# Altium schematic symbol library 球球库.SchLib: 79 symbols
Pins are listed as number, name and electrical type; pins without a type are passive.

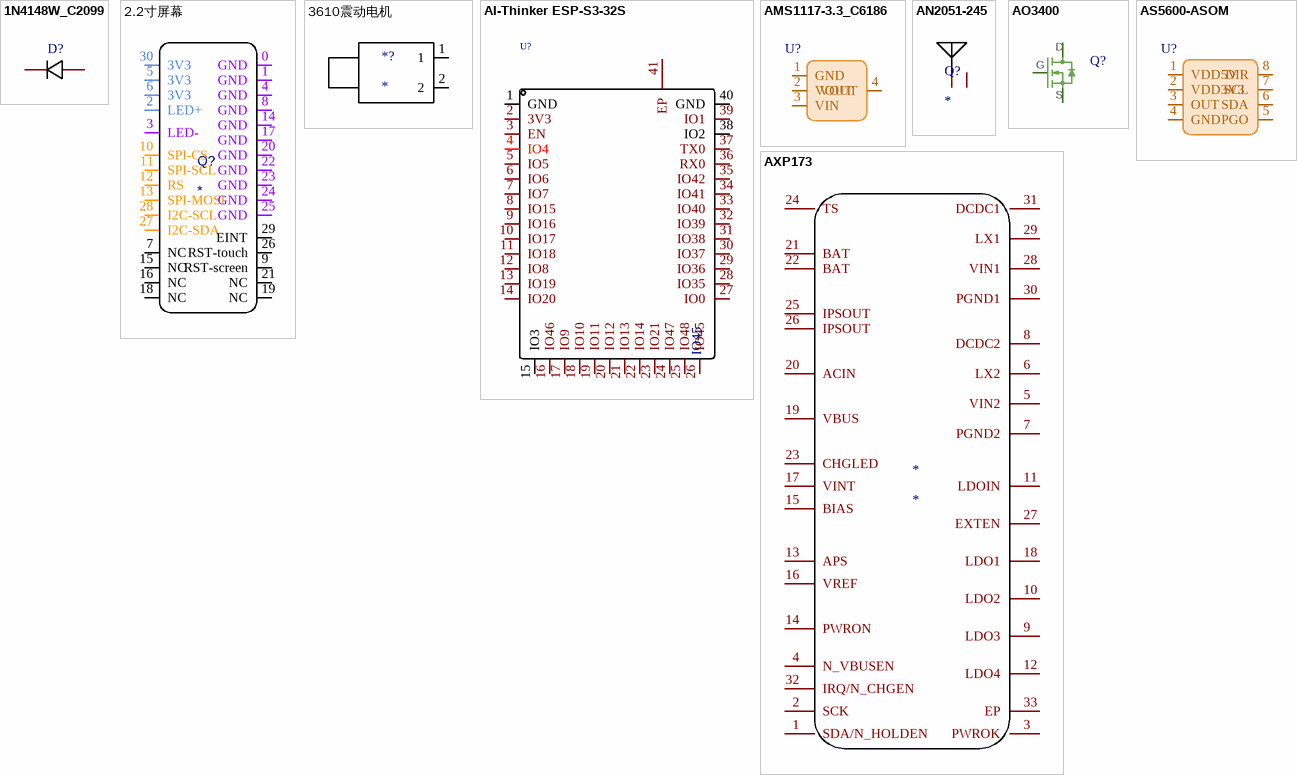
[diagram p0: symbols 1N4148W_C2099 to AXP173]

## 1N4148W_C2099
designator D?  (value not drawn)
二极管配置:独立式;功率:500mW;直流反向耐压(Vr):100V;平均整流电流(Io):150mA;正向压降(Vf):1.25V@150mA;反向电流(Ir):1uA@75V;反向恢复时间(trr):4ns;工作温度:+150℃@(Tj);; Manufacturer: CJ(江苏长电/长晶); Symbol: 1N4148W T4; Add into BOM: yes; Diode Configuration: 独立式; Power Dissipation: 500mW; Reverse Voltage (Vr): 100V; Average Rectified Current (Io): 150mA; Reverse Recovery Time (trr): 4ns; Name: 1N4148W; Device: 1N4148W_C2099; LCSC Part Name: 100V 150mA 4ns T4; Supplier Part: C2099; Manufacturer Part: 1N4148W; Supplier Footprint: SOD-123; JLCPCB Part Class: 扩展库; Datasheet: https://atta.szlcsc.com/upload/public/pdf/source/20120428/1457706480199.pdf; Supplier: LCSC; Convert to PCB: yes; Forward Voltage (Vf@If): 1.25V@150mA; Reverse Leakage Current: 1uA@75V; Operating Temperature: +150℃@(Tj)
footprint SOD-123_L2.8-W1.8-LS3.7-RD
3D model SOD-123_L2.8-W1.8-LS3.7-RD
pins: 1 K, 2 A

## 2.2寸屏幕
designator Q?
footprint 2.2寸屏幕
pins: 0 GND, 1 GND, 2 LED+, 3 LED-, 4 GND, 5 3V3, 6 3V3, 7 NC, 8 GND, 9 RST-screen, 10 SPI-CS, 11 SPI-SCL, 12 RS, 13 SPI-MOSI, 14 GND, 15 NC, 16 NC, 17 GND, 18 NC, 19 NC, 20 GND, 21 NC, 22 GND, 23 GND, 24 GND, 25 GND, 26 RST-touch, 27 I2C-SDA, 28 I2C-SCL, 29 EINT, 30 3V3

## 3610震动电机
designator *?
footprint 3610电机
pins: 1, 2

## AI-Thinker ESP-S3-32S
designator U?  NAME: IO45  (hidden comment: AI-Thinker ESP-S3-32S)
Manufacturer: AI Thinker; Convert to PCB: yes; Symbol: AI-Thinker ESP-S3-32S; Device: AI-Thinker ESP-S3-32S; Add into BOM: yes; Supplier: AI Thinker
footprint ESP-S3-32S
pins: 1 GND, 2 3V3, 3 EN, 4 IO4, 5 IO5, 6 IO6, 7 IO7, 8 IO15, 9 IO16, 10 IO17, 11 IO18, 12 IO8, 13 IO19, 14 IO20, 15 IO3, 16 IO46, 17 IO9, 18 IO10, 19 IO11, 20 IO12, 21 IO13, 22 IO14, 23 IO21, 24 IO47, 25 IO48, 26 IO45, 27 IO0, 28 IO35, 29 IO36, 30 IO37, 31 IO38, 32 IO39, 33 IO40, 34 IO41, 35 IO42, 36 RX0, 37 TX0, 38 IO2, 39 IO1, 40 GND, 41 EP

## AMS1117-3.3_C6186
designator U?  (value not drawn)
输出类型:固定;输出极性:正;输出通道数:1;最大输入电压:-;输出电压:3.3V;压差:1.3V@(800mA);静态电流(地电流):-;输出电流:1A;电源纹波抑制比(PSRR):72dB@(120Hz);噪声:-;特性:-;工作温度:-;; Manufacturer: 美国AMS; Add into BOM: yes; Output Type: 固定; Output Polarity: 正; Number of Outputs: 1; Output Voltage: 3.3V; Output Current: 1A; Name: AMS1117-3.3; Symbol: AMS1117-3.3; Device: AMS1117-3.3_C6186; LCSC Part Name: Vout=3.3V 1A 72dB@(120Hz); Supplier Part: C6186; Manufacturer Part: AMS1117-3.3; Supplier Footprint: SOT-223; JLCPCB Part Class: 基础库; Datasheet: https://atta.szlcsc.com/upload/public/pdf/source/20180727/C6186_7A095716F0823C02F1997A905E26C086.pdf; Supplier: LCSC; Convert to PCB: yes; Maximum Input Voltage: -; Dropout Voltage: 1.3V@(800mA); Quiescent Current (Ground Current): -; Power Supply Rejection Ratio (PSRR): 72dB@(120Hz); Noise: -; Feature: -; Operating Temperature: -
footprint SOT-223-3_L6.5-W3.4-P2.30-LS7.0-BR
3D model SOT-223-4P_L6.5-W3.5-H1.6-LS7.0-P2.30
pins: 1 GND, 2 VOUT, 3 VIN, 4 VOUT

## AN2051-245
designator Q?
footprint AN2051-245
pins: 1 ANT, 2

## AO3400
designator Q?, comment AO3400_C181090  (value not drawn)
类型:N沟道;漏源电压(Vdss):30V;连续漏极电流(Id):5.8A;功率(Pd):350mW;导通电阻(RDS(on)@Vgs,Id):35mΩ@10V,5.8A;阈值电压(Vgs(th)@Id):1.4V@250uA;; Manufacturer: Hottech(合科泰); Name: AO3400; Add into BOM: yes; Type: N沟道; Drain Source Voltage (Vdss): 30V; Power Dissipation (Pd): 350mW; Symbol: AO3400_C181090; Device: AO3400_C181090; LCSC Part Name: N沟道 30V 5.8A; Supplier Part: C181090; Manufacturer Part: AO3400; Supplier Footprint: SOT-23-3; JLCPCB Part Class: 扩展库; Datasheet: https://atta.szlcsc.com/upload/public/pdf/source/20220427/6A3871894567E8883DB64081D5FF8011.pdf; Supplier: LCSC; Convert to PCB: yes; Continuous Drain Current (Id): 5.8A; Drain Source On Resistance (RDS(on)@Vgs,Id): 35mΩ@10V,5.8A; Gate Threshold Voltage (Vgs(th)@Id): 1.4V@250uA
footprint SOT-23-3_L2.9-W1.3-P1.90-LS2.4-BR
3D model SOT-23-3P_L2.9-W1.3-H1.0-LS2.4-P0.95
pins: 1 G, 2 S, 3 D

## AS5600-ASOM
designator U?  (value not drawn)
非接触12bit磁角度位置传感器; Manufacturer: ams(艾迈斯半导体); Add into BOM: yes; Name: AS5600-ASOM; Symbol: AS5600-ASOM; Device: AS5600-ASOM; LCSC Part Name: AS5600-ASOM; Supplier Part: C79815; Manufacturer Part: AS5600-ASOM; Supplier Footprint: SOIC-8_150mil; JLCPCB Part Class: 扩展库; Datasheet: https://atta.szlcsc.com/upload/public/pdf/source/20161027/1477535527192.pdf; Supplier: LCSC; Convert to PCB: yes
footprint SOIC-8_L5.0-W4.0-P1.27-LS6.0-BL
3D model SOIC-8_L4.9-W3.9-H1.7-LS6.0-P1.27
pins: 1 VDD5V, 2 VDD3V3, 3 OUT, 4 GND, 5 PGO, 6 SDA, 7 SCL, 8 DIR

## AXP173
designator *
footprint QFN-32
pins: 1 SDA/N_HOLDEN, 2 SCK, 3 PWROK, 4 N_VBUSEN, 5 VIN2, 6 LX2, 7 PGND2, 8 DCDC2, 9 LDO3, 10 LDO2, 11 LDOIN, 12 LDO4, 13 APS, 14 PWRON, 15 BIAS, 16 VREF, 17 VINT, 18 LDO1, 19 VBUS, 20 ACIN, 21 BAT, 22 BAT, 23 CHGLED, 24 TS, 25 IPSOUT, 26 IPSOUT, 27 EXTEN, 28 VIN1, 29 LX1, 30 PGND1, 31 DCDC1, 32 IRQ/N_CHGEN, 33 EP

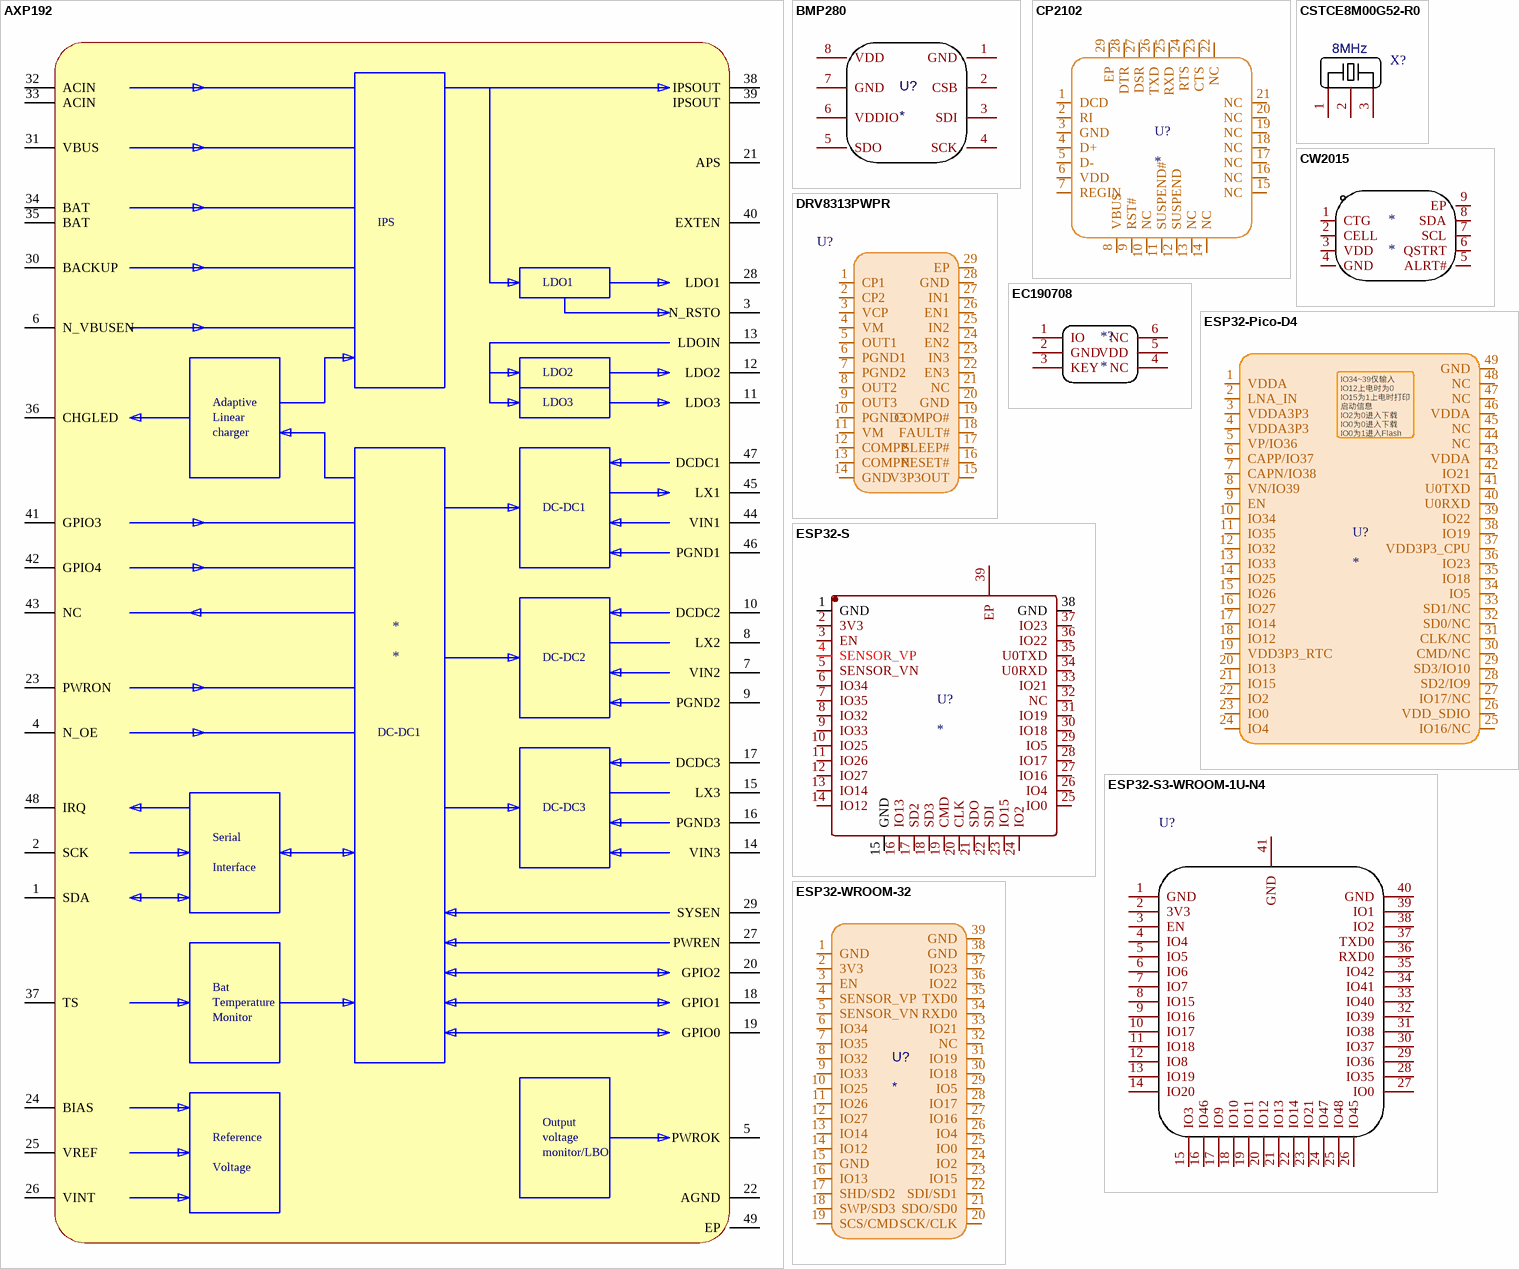
[diagram p1: symbols AXP192 to ESP32-WROOM-32]

## AXP192
designator *
footprint QFN-48_6x6
pins: 1 SDA, 2 SCK, 3 N_RSTO, 4 N_OE, 5 PWROK, 6 N_VBUSEN, 7 VIN2, 8 LX2, 9 PGND2, 10 DCDC2, 11 LDO3, 12 LDO2, 13 LDOIN, 14 VIN3, 15 LX3, 16 PGND3, 17 DCDC3, 18 GPIO1, 19 GPIO0, 20 GPIO2, 21 APS, 22 AGND, 23 PWRON, 24 BIAS, 25 VREF, 26 VINT, 27 PWREN, 28 LDO1, 29 SYSEN, 30 BACKUP, 31 VBUS, 32 ACIN, 33 ACIN, 34 BAT, 35 BAT, 36 CHGLED, 37 TS, 38 IPSOUT, 39 IPSOUT, 40 EXTEN, 41 GPIO3, 42 GPIO4, 43 NC, 44 VIN1, 45 LX1, 46 PGND1, 47 DCDC1, 48 IRQ, 49 EP
text: IPS; Adaptive; Linear; charger; DC-DC1; DC-DC2; DC-DC3; Serial; Interface; Bat; Temperature; Monitor; Output; Reference; voltage; monitor/LBO; Voltage

## BMP280
designator U?
footprint BMP280
pins: 1 GND, 2 CSB, 3 SDI, 4 SCK, 5 SDO, 6 VDDIO, 7 GND, 8 VDD

## CP2102
designator U?
footprint QFN-28
pins: 1 DCD, 2 RI, 3 GND, 4 D+, 5 D-, 6 VDD, 7 REGIN, 8 VBUS, 9 RST#, 10 NC, 11 SUSPEND#, 12 SUSPEND, 13 NC, 14 NC, 15 NC, 16 NC, 17 NC, 18 NC, 19 NC, 20 NC, 21 NC, 22 NC, 23 CTS, 24 RTS, 25 RXD, 26 TXD, 27 DSR, 28 DTR, 29 EP

## CSTCE8M00G52-R0
designator X?  value 8MHz  (hidden comment: CSTCE8M00G52-R0)
频率:8MHz;频率容差:±0.5%;内置负载电容:10pF;谐振阻抗:40Ω;; Manufacturer: muRata(村田); Add into BOM: yes; Frequency Tolerance: ±0.5%; Built-in Load Capacitance: 10pF; Resonant Impedance: 40Ω; NAME: 3; Name: 8MHz; Symbol: CSTCE8M00G52-R0; Device: CSTCE8M00G52-R0; LCSC Part Name: 8.000MHz  ±0.5%  10pF 停产; Supplier Part: C22549; Manufacturer Part: CSTCE8M00G52-R0; Supplier Footprint: SMD3213-3P; JLCPCB Part Class: 扩展库; Datasheet: https://atta.szlcsc.com/upload/public/pdf/source/20160120/1457707754326.pdf; Supplier: LCSC; Convert to PCB: yes; Operating Temperature: -20℃~+80℃
footprint OSC-SMD_3P-L3.2-W1.3-P1.2-L
3D model OSC-SMD_3P-L3.2-W1.3-H0.8-P1.2
pins: 1, 2, 3

## CW2015
designator *
footprint TDFN-8
pins: 1 CTG, 2 CELL, 3 VDD, 4 GND, 5 ALRT#, 6 QSTRT, 7 SCL, 8 SDA, 9 EP

## DRV8313PWPR
designator U?  (value not drawn)
DRV8313 三路 1/2 H 桥驱动器 IC; Manufacturer: TI(德州仪器); Add into BOM: yes; Name: DRV8313PWPR; Symbol: DRV8313PWPR; Device: DRV8313PWPR; LCSC Part Name: DRV8313PWPR; Supplier Part: C92482; Manufacturer Part: DRV8313PWPR; Supplier Footprint: HTSSOP-28; JLCPCB Part Class: 扩展库; Datasheet: https://atta.szlcsc.com/upload/public/pdf/source/20180307/C92482_15204091381071407760.pdf; Supplier: LCSC; Convert to PCB: yes
footprint HTSSOP-28_L9.8-W4.5-P0.65-LS6.6-BL-EP
3D model HTSSOP-28_L9.7-W4.4-H1.2-LS6.4-P0.65
pins: 1 CP1, 2 CP2, 3 VCP, 4 VM, 5 OUT1, 6 PGND1, 7 PGND2, 8 OUT2, 9 OUT3, 10 PGND3, 11 VM, 12 COMPP, 13 COMPN, 14 GND, 15 V3P3OUT, 16 RESET#, 17 SLEEP#, 18 FAULT#, 19 COMPO#, 20 GND, 21 NC, 22 EN3, 23 IN3, 24 EN2, 25 IN2, 26 EN1, 27 IN1, 28 GND, 29 EP

## EC190708
designator *?
footprint SOT23-6
pins: 1 IO, 2 GND, 3 KEY, 4 NC, 5 VDD, 6 NC

## ESP32-Pico-D4
designator U?
footprint QFN-48_7X7
pins: 1 VDDA, 2 LNA_IN, 3 VDDA3P3, 4 VDDA3P3, 5 VP/IO36, 6 CAPP/IO37, 7 CAPN/IO38, 8 VN/IO39, 9 EN, 10 IO34, 11 IO35, 12 IO32, 13 IO33, 14 IO25, 15 IO26, 16 IO27, 17 IO14, 18 IO12, 19 VDD3P3_RTC, 20 IO13, 21 IO15, 22 IO2, 23 IO0, 24 IO4, 25 IO16/NC, 26 VDD_SDIO, 27 IO17/NC, 28 SD2/IO9, 29 SD3/IO10, 30 CMD/NC, 31 CLK/NC, 32 SD0/NC, 33 SD1/NC, 34 IO5, 35 IO18, 36 IO23, 37 VDD3P3_CPU, 38 IO19, 39 IO22, 40 U0RXD, 41 U0TXD, 42 IO21, 43 VDDA, 44 NC, 45 NC, 46 VDDA, 47 NC, 48 NC, 49 GND
text: IO34~39仅输入 / IO12上电时为0 / IO15为1上电时打印启动信息 / IO2为0进入下载 / IO0为0进入下载 / IO0为1进入Flash / IO5上电为1 /

## ESP32-S
designator U?
footprint ESP32-S
pins: 1 GND, 2 3V3, 3 EN, 4 SENSOR_VP, 5 SENSOR_VN, 6 IO34, 7 IO35, 8 IO32, 9 IO33, 10 IO25, 11 IO26, 12 IO27, 13 IO14, 14 IO12, 15 GND, 16 IO13, 17 SD2, 18 SD3, 19 CMD, 20 CLK, 21 SDO, 22 SDI, 23 IO15, 24 IO2, 25 IO0, 26 IO4, 27 IO16, 28 IO17, 29 IO5, 30 IO18, 31 IO19, 32 NC, 33 IO21, 34 U0RXD, 35 U0TXD, 36 IO22, 37 IO23, 38 GND, 39 EP

## ESP32-S3-WROOM-1U-N4
designator U?  (value not drawn)
Manufacturer: ESPRESSIF(乐鑫); Add into BOM: yes; Name: ESP32-S3-WROOM-1U-N4; Symbol: ESP32-S3-WROOM-1U-N4; Device: ESP32-S3-WROOM-1U-N4; LCSC Part Name: ESP32-S3-WROOM-1U-N4; Supplier Part: C2980296; Manufacturer Part: ESP32-S3-WROOM-1U-N4; Supplier Footprint: 模块; JLCPCB Part Class: 扩展库; Datasheet: https://atta.szlcsc.com/upload/public/pdf/source/20220628/A2AC12B3C87735CAEB7EBE2DBE80936C.pdf; Supplier: LCSC; Convert to PCB: yes
footprint ESP32-S3-U1
pins: 1 GND, 2 3V3, 3 EN, 4 IO4, 5 IO5, 6 IO6, 7 IO7, 8 IO15, 9 IO16, 10 IO17, 11 IO18, 12 IO8, 13 IO19, 14 IO20, 15 IO3, 16 IO46, 17 IO9, 18 IO10, 19 IO11, 20 IO12, 21 IO13, 22 IO14, 23 IO21, 24 IO47, 25 IO48, 26 IO45, 27 IO0, 28 IO35, 29 IO36, 30 IO37, 31 IO38, 32 IO39, 33 IO40, 34 IO41, 35 IO42, 36 RXD0, 37 TXD0, 38 IO2, 39 IO1, 40 GND, 41 GND

## ESP32-WROOM-32
designator U?
footprint ESP32-WROOM-32
pins: 1 GND, 2 3V3, 3 EN, 4 SENSOR_VP, 5 SENSOR_VN, 6 IO34, 7 IO35, 8 IO32, 9 IO33, 10 IO25, 11 IO26, 12 IO27, 13 IO14, 14 IO12, 15 GND, 16 IO13, 17 SHD/SD2, 18 SWP/SD3, 19 SCS/CMD, 20 SCK/CLK, 21 SDO/SD0, 22 SDI/SD1, 23 IO15, 24 IO2, 25 IO0, 26 IO4, 27 IO16, 28 IO17, 29 IO5, 30 IO18, 31 IO19, 32 NC, 33 IO21, 34 RXD0, 35 TXD0, 36 IO22, 37 IO23, 38 GND, 39 GND

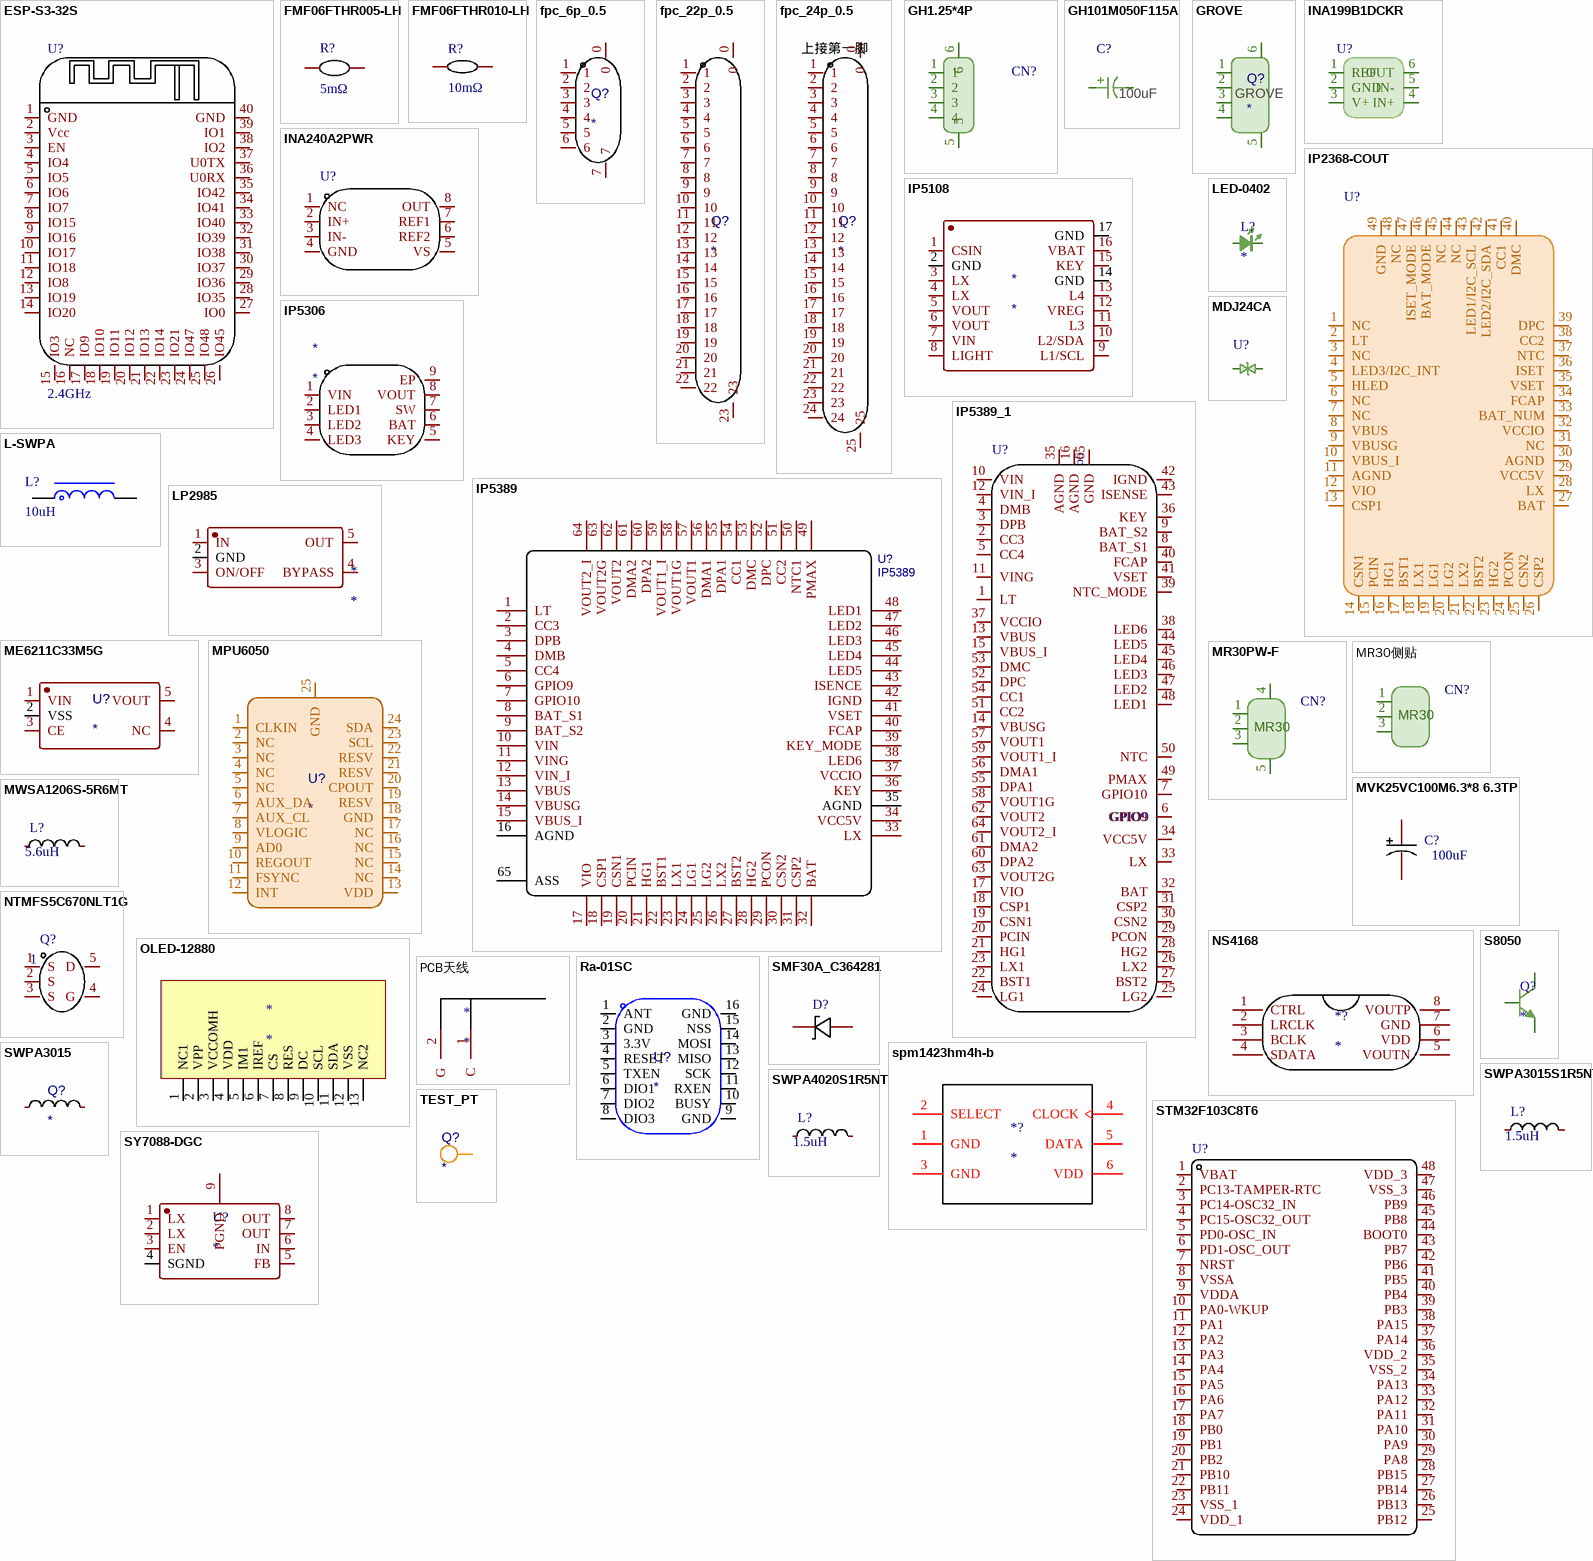
[diagram p2: symbols ESP-S3-32S to TEST_PT]

## ESP-S3-32S
designator U?, comment 2.4GHz
频率:2.4GHz;发射功率:20dBm;核心处理器:LX7;天线形式:板载 PCB 天线/IPEX 座;接收灵敏度:-97dBm;; Manufacturer: Ai-Thinker(安信可); Symbol: ESP-S3-32S; Add into BOM: yes; Output Power: 20dBm; Core Processor: LX7; Support Interface: I2C；GPIO；UART；PWM；SPI；ADC；I2S; Wireless Standard: 802.11b/g/n; Operating Voltage: 3.3V; Receive  Current: 100mA; Send  Current: 350mA; Sensitivity: -97dBm; Name: 2.4GHz; Device: ESP-S3-32S; LCSC Part Name: ESP-S3-32S; Supplier Part: C2991924; Manufacturer Part: ESP-S3-32S; Supplier Footprint: 模块; JLCPCB Part Class: Extended Part; Datasheet: https://atta.szlcsc.com/upload/public/pdf/source/20220408/CE8A9DA1AF38F6C1872EA82F58EE94AA.pdf; Supplier: LCSC; Convert to PCB: yes; Antenna Type: 板载 PCB 天线/IPEX 座; Operating Temperature: -40℃~+85℃; Value: 2.4GHz
footprint WIFIM-SMD_40P-L25.5-W18.0-P1.27-TL
3D model WIFIM-SMD_40P-L25.5-W18.0-P1.27-TL
pins: 1 GND, 2 Vcc, 3 EN, 4 IO4, 5 IO5, 6 IO6, 7 IO7, 8 IO15, 9 IO16, 10 IO17, 11 IO18, 12 IO8, 13 IO19, 14 IO20, 15 IO3, 16 NC, 17 IO9, 18 IO10, 19 IO11, 20 IO12, 21 IO13, 22 IO14, 23 IO21, 24 IO47, 25 IO48, 26 IO45, 27 IO0, 28 IO35, 29 IO36, 30 IO37, 31 IO38, 32 IO39, 33 IO40, 34 IO41, 35 IO42, 36 U0RX, 37 U0TX, 38 IO2, 39 IO1, 40 GND

## FMF06FTHR005-LH
designator R?  value 5mΩ  (hidden comment: FMF06FTHR005-LH)
阻值:5mΩ;精度:±1%;功率:1W;温度系数:±70ppm/℃;; Manufacturer: PSA(信昌电陶); Add into BOM: yes; Tolerance: ±1%; Power(Watts): 1W; Name: 5mΩ; Symbol: FMF06FTHR005-LH; Device: FMF06FTHR005-LH; LCSC Part Name: 5mΩ ±1% 1W; Supplier Part: C464975; Manufacturer Part: FMF06FTHR005-LH; Supplier Footprint: 1206; JLCPCB Part Class: 扩展库; Datasheet: https://atta.szlcsc.com/upload/public/pdf/source/20191129/C464975_5F7F8E27A15B862FFEA0BACE05AA9473.pdf; Supplier: LCSC; Convert to PCB: yes; Temperature Coefficient: ±70ppm/℃
footprint R1206
3D model R1206_L3.2-W1.6-H0.6
pins: 1, 2

## FMF06FTHR010-LH
designator R?  value 10mΩ  (hidden comment: FMF06FTHR010-LH)
阻值:10mΩ;精度:±1%;功率:1W;温度系数:±70ppm/℃;; Manufacturer: PSA(信昌电陶); Symbol: FMF06FTHR010-LHL; Add into BOM: yes; Tolerance: ±1%; Power(Watts): 1W; Name: 10mΩ; Device: FMF06FTHR010-LH; LCSC Part Name: 10mΩ ±1% 1W; Supplier Part: C105362; Manufacturer Part: FMF06FTHR010-LH; Supplier Footprint: 1206; JLCPCB Part Class: 扩展库; Datasheet: https://atta.szlcsc.com/upload/public/pdf/source/20170410/1491788444486.pdf; Supplier: LCSC; Convert to PCB: yes; Temperature Coefficient: ±70ppm/℃
footprint R1206
3D model R1206_L3.2-W1.6-H0.6
pins: 1, 2

## fpc_6p_0.5
designator Q?
footprint fpc-后压6p
pins: 0, 1, 2, 3, 4, 5, 6, 7

## fpc_22p_0.5
designator Q?
footprint fpc-后压22p
pins: 0, 1, 2, 3, 4, 5, 6, 7, 8, 9, 10, 11, 12, 13, 14, 15, 16, 17, 18, 19, 20, 21, 22, 23

## fpc_24p_0.5
designator Q?
footprint fpc-后压24p
pins: 0, 1, 2, 3, 4, 5, 6, 7, 8, 9, 10, 11, 12, 13, 14, 15, 16, 17, 18, 19, 20, 21, 22, 23, 24, 25
text: 上接第一脚

## GH1.25*4P
designator CN?, comment A1257WR-S-4P  (value not drawn)
参考系列:GH;间距:1.25mm;插针结构:1x4P;排数:1;每排PIN数:4;行距:-;安装方式:-;触头材质:黄铜;; Manufacturer: CJT(长江连接器); Add into BOM: yes; Reference Series: GH; Pitch: 1.25mm; Pins Structure: 1x4P; Number of PINs Per Row: 4; Name: A1257WR-S-4P; Symbol: A1257WR-S-4P; Device: A1257WR-S-4P; LCSC Part Name: GH1.25卧式贴片 镀锡 4P 针座连接器; Supplier Part: C225127; Manufacturer Part: A1257WR-S-4P; Supplier Footprint: SMD,P=1.25mm; JLCPCB Part Class: Extended Part; Datasheet: https://atta.szlcsc.com/upload/public/pdf/source/20180509/C225127_D8D3C7F8F1F45F960D198B1E232900BE.pdf; Supplier: LCSC; Convert to PCB: yes; Number of Rows: 1; Row Spacing: -; Mounting Style: -; Contact Material: 黄铜
footprint CONN-SMD_A1257WR-S-4P
3D model CONN-SMD_GH1.25-WS-4P
pins: 1, 2, 3, 4, 5, 6

## GH101M050F115A
designator C?, comment 100uF
容值:100uF;精度:±20%;额定电压:50V;电容体直径:8mm;电容体长度:11.5mm;脚间距:3.5mm;纹波电流:540mA@100kHz;等效串联电阻:280mΩ@100kHz;工作寿命:7000hrs@105℃;工作温度:-55℃~+105℃;; Manufacturer: CapXon(丰宾); Symbol: GH101M050F115A; Add into BOM: yes; Tolerance: ±20%; Rated Voltage: 50V; φD: 8mm; L: 11.5mm; Name: 100uF; Device: GH101M050F115A; LCSC Part Name: 100uF ±20% 50V; Supplier Part: C2886718; Manufacturer Part: GH101M050F115A; Supplier Footprint: 插件,D8xL11.5mm; JLCPCB Part Class: Extended Part; Datasheet: https://atta.szlcsc.com/upload/public/pdf/source/20210818/BAF06C919BDA5EFC1E3920114FF02917.pdf; Supplier: LCSC; Convert to PCB: yes; Lead Spacing: 3.5mm; Ripple Current: 540mA@100kHz; Equivalent Series Resistance(ESR): 280mΩ@100kHz; Lifetime @ Temp: 7000hrs@105℃; Operating Temperature: -55℃~+105℃; Value: 100uF
footprint CAP-TH_BD8.0-P3.50-D0.5-FD
3D model CAP-TH_BD8.0-P3.50-D0.5-FD
pins: 1, 2

## GROVE
designator Q?
footprint GROVE
pins: 1, 2, 3, 4, 5, 6

## INA199B1DCKR
designator U?  (value not drawn)
INA199 26V、双向、零漂移、低侧/高侧、电压输出分流监控器; Manufacturer: TI(德州仪器); Add into BOM: yes; Symbol: INA199B1DCKR; Device: INA199B1DCKR; LCSC Part Name: INA199B1DCKR; Supplier Part: C398920; Manufacturer Part: INA199B1DCKR; Supplier Footprint: SC-70-6; JLCPCB Part Class: Extended Part; Datasheet: https://atta.szlcsc.com/upload/public/pdf/source/20190618/C398920_11F1AA1C0E9C9D9BC4E845E2D57884D2.pdf; Supplier: LCSC; Convert to PCB: yes
footprint SC-70-6_L2.2-W1.3-P0.65-LS2.1-BL
3D model SC-70-6_L2.0-W1.3-H1.0-P0.65
pins: 1 REF, 2 GND, 3 V+, 4 IN+, 5 IN-, 6 OUT

## INA240A2PWR
designator U?  (value not drawn)
INA240 电压输出、高/低侧测量、双向零漂移系列; Manufacturer: TI(德州仪器); Add into BOM: yes; Name: INA240A2PWR; Symbol: INA240A2PWR; Device: INA240A2PWR; LCSC Part Name: INA240A2PWR; Supplier Part: C129949; Manufacturer Part: INA240A2PWR; Supplier Footprint: TSSOP-8; JLCPCB Part Class: 扩展库; Datasheet: https://atta.szlcsc.com/upload/public/pdf/source/20170918/C129949_1505700148139974986.pdf; Supplier: LCSC; Convert to PCB: yes
footprint TSSOP-8_L4.4-W3.0-P0.65-LS6.4-BL
3D model TSSOP-8_L3.0-W4.4-H1.0-LS6.4-P0.65
pins: 1 NC, 2 IN+, 3 IN-, 4 GND, 5 VS, 6 REF2, 7 REF1, 8 OUT

## IP2368-COUT
designator U?  (value not drawn)
Add into BOM: yes; Name: IP2368-COUT; Symbol: IP2368-COUT; Device: IP2368-COUT; LCSC Part Name: IP2368-COUT; Supplier Part: C9900006677; Manufacturer Part: IP2368-COUT; Supplier Footprint: QFN-48; JLCPCB Part Class: Extended Part; Datasheet: https://atta.szlcsc.comnull; Supplier: LCSC; Convert to PCB: yes
footprint QFN-48_L7.0-W7.0-P0.50-BL-EP5.4
3D model QFN-48_L7.0-W7.0-P0.50-BL-EP5.4
pins: 1 NC, 2 LT, 3 NC, 4 LED3/I2C_INT, 5 HLED, 6 NC, 7 NC, 8 VBUS, 9 VBUSG, 10 VBUS_I, 11 AGND, 12 VIO, 13 CSP1, 14 CSN1, 15 PCIN, 16 HG1, 17 BST1, 18 LX1, 19 LG1, 20 LG2, 21 LX2, 22 BST2, 23 HG2, 24 PCON, 25 CSN2, 26 CSP2, 27 BAT, 28 LX, 29 VCC5V, 30 AGND, 31 NC, 32 VCCIO, 33 BAT_NUM, 34 FCAP, 35 VSET, 36 ISET, 37 NTC, 38 CC2, 39 DPC, 40 DMC, 41 CC1, 42 LED2/I2C_SDA, 43 LED1/I2C_SCL, 44 NC, 45 NC, 46 BAT_MODE, 47 ISET_MODE, 48 NC, 49 GND

## IP5108
designator *
footprint eSOP-16L
pins: 1 CSIN, 2 GND, 3 LX, 4 LX, 5 VOUT, 6 VOUT, 7 VIN, 8 LIGHT, 9 L1/SCL, 10 L2/SDA, 11 L3, 12 VREG, 13 L4, 14 GND, 15 KEY, 16 VBAT, 17 GND

## IP5306
designator *
footprint ESOP8
pins: 1 VIN, 2 LED1, 3 LED2, 4 LED3, 5 KEY, 6 BAT, 7 SW, 8 VOUT, 9 EP

## IP5389
designator U?
Contributor: LoveLoli; spicePre: U; spiceSymbolName: IP5389
footprint QFN-64_L8.0-W8.0-P0.40-TL-EP6.2
pins: 1 LT, 2 CC3, 3 DPB, 4 DMB, 5 CC4, 6 GPIO9, 7 GPIO10, 8 BAT_S1, 9 BAT_S2, 10 VIN, 11 VING, 12 VIN_I, 13 VBUS, 14 VBUSG, 15 VBUS_I, 16 AGND, 17 VIO, 18 CSP1, 19 CSN1, 20 PCIN, 21 HG1, 22 BST1, 23 LX1, 24 LG1, 25 LG2, 26 LX2, 27 BST2, 28 HG2, 29 PCON, 30 CSN2, 31 CSP2, 32 BAT, 33 LX, 34 VCC5V, 35 AGND, 36 KEY, 37 VCCIO, 38 LED6, 39 KEY_MODE, 40 FCAP, 41 VSET, 42 IGND, 43 ISENCE, 44 LED5, 45 LED4, 46 LED3, 47 LED2, 48 LED1, 49 PMAX, 50 NTC1, 51 CC2, 52 DPC, 53 DMC, 54 CC1, 55 DPA1, 56 DMA1, 57 VOUT1, 58 VOUT1G, 59 VOUT1_I, 60 DPA2, 61 DMA2, 62 VOUT2, 63 VOUT2G, 64 VOUT2_I, 65 ASS

## IP5389_1
designator U?, comment NAME: GPIO9  NUMBER: 65  (hidden comment: IP5389)
Add into BOM: yes; Name: IP5389; Symbol: IP5389; Device: IP5389; LCSC Part Name: IP5389; Supplier Part: C5144574; Manufacturer Part: IP5389; Supplier Footprint: QFN-64; JLCPCB Part Class: 扩展库; Datasheet: https://atta.szlcsc.comnull; Supplier: LCSC; Convert to PCB: yes
footprint QFN-64_L8.0-W8.0-P0.40-TL-EP6.2
3D model QFN-64_L8.0-W8.0-H1.0-P0.40
pins: 1 LT, 2 CC3, 3 DPB, 4 DMB, 5 CC4, 6 GPIO9, 7 GPIO10, 8 BAT_S1, 9 BAT_S2, 10 VIN, 11 VING, 12 VIN_I, 13 VBUS, 14 VBUSG, 15 VBUS_I, 16 AGND, 17 VIO, 18 CSP1, 19 CSN1, 20 PCIN, 21 HG1, 22 BST1, 23 LX1, 24 LG1, 25 LG2, 26 LX2, 27 BST2, 28 HG2, 29 PCON, 30 CSN2, 31 CSP2, 32 BAT, 33 LX, 34 VCC5V, 35 AGND, 36 KEY, 37 VCCIO, 38 LED6, 39 NTC_MODE, 40 FCAP, 41 VSET, 42 IGND, 43 ISENSE, 44 LED5, 45 LED4, 46 LED3, 47 LED2, 48 LED1, 49 PMAX, 50 NTC, 51 CC2, 52 DPC, 53 DMC, 54 CC1, 55 DPA1, 56 DMA1, 57 VOUT1, 58 VOUT1G, 59 VOUT1_I, 60 DPA2, 61 DMA2, 62 VOUT2, 63 VOUT2G, 64 VOUT2_I, 65 GND

## L-SWPA
designator L?, comment 10uH
顺络_SWPA贴片屏蔽电感; BOM名称: 功率屏蔽电感
footprint SWPA3015 (轮廓3mm*3mm ，焊盘间距1.5mm)
footprint CD54 (5.8*5.2*4.5mm（长宽高）)
pins: 1, 2

## LED-0402
designator L?
footprint LED-0402
pins: 1 A, 2 K

## LP2985
designator *
有多种电压版本，自己看对应电压的
footprint SOT23-5
pins: 1 IN, 2 GND, 3 ON/OFF, 4 BYPASS, 5 OUT

## MDJ24CA
designator U?, comment 5.0SMDJ24CA  (value not drawn)
极性:双向;反向截止电压(Vrwm):24V;击穿电压:26.7V;反向漏电流(Ir):5uA;峰值脉冲电流(Ipp)@10/1000μs:129A;最大钳位电压:38.9V;峰值脉冲功率(Ppp)@10/1000μs:5kW;; Manufacturer: PAKER(派克微); Symbol: 5.0SMDJ24CA_C3012614; Add into BOM: yes; Polarity: 双向; Reverse Stand-Off Voltage (Vrwm): 24V; Breakdown Voltage: 26.7V; Reverse Leakage Current (Ir): 5uA; Peak Pulse Current (Ipp)@10/1000μs: 129A; Maximum Clamping Voltage: 38.9V; Peak Pulse Power Dissipation (Ppp)@10/1000μs: 5kW; Name: 5.0SMDJ24CA; Device: 5.0SMDJ24CA_C3012614; LCSC Part Name: 双向 Vrwm:24V 5kW; Supplier Part: C3012614; Manufacturer Part: 5.0SMDJ24CA; Supplier Footprint: SMC; JLCPCB Part Class: Extended Part; Datasheet: https://atta.szlcsc.com/upload/public/pdf/source/20220607/733F7EF8A256C9AB9E3BF6EBC63A8845.pdf; Supplier: LCSC; Convert to PCB: yes
footprint SMC_L6.9-W5.9-LS7.9-BI
3D model SMC_L6.9-W5.9-H2.1-LS7.9
pins: 1, 2

## ME6211C33M5G
designator U?
footprint SOT23-5
pins: 1 VIN, 2 VSS, 3 CE, 4 NC, 5 VOUT

## MPU6050
designator U?
footprint QFN-24
pins: 1 CLKIN, 2 NC, 3 NC, 4 NC, 5 NC, 6 AUX_DA, 7 AUX_CL, 8 VLOGIC, 9 AD0, 10 REGOUT, 11 FSYNC, 12 INT, 13 VDD, 14 NC, 15 NC, 16 NC, 17 NC, 18 GND, 19 RESV, 20 CPOUT, 21 RESV, 22 RESV, 23 SCL, 24 SDA, 25 GND

## MR30PW-F
designator CN?  (value not drawn)
Add into BOM: yes; Name: MR30PW-F; Symbol: MR30PW-F; Device: MR30PW-F; LCSC Part Name: MR30PW-F; Supplier Part: C2928110; Manufacturer Part: MR30PW-F; Supplier Footprint: Through hole; JLCPCB Part Class: 扩展库; Supplier: LCSC; Convert to PCB: yes
footprint CONN-TH_MR30PW-F
3D model CONN-TH_MR30PW-F
pins: 1, 2, 3, 4, 5
text: MR30

## MR30侧贴
designator CN?, comment MR30PW-F  (value not drawn)
Add into BOM: yes; Name: MR30PW-F; Symbol: MR30PW-F; Device: MR30PW-F; LCSC Part Name: MR30PW-F; Supplier Part: C2928110; Manufacturer Part: MR30PW-F; Supplier Footprint: Through hole; JLCPCB Part Class: 扩展库; Supplier: LCSC; Convert to PCB: yes
footprint CONN-TH_MR30-M
pins: 1, 2, 3
text: MR30

## MVK25VC100M6.3*8 6.3TP
designator C?  value 100uF  (hidden comment: MVK25VC100M6.3*8 6.3TP)
容值:100uF;精度:±20%;额定电压:25V;电容体直径:6.3mm;电容体长度:8mm;纹波电流:-;等效串联电阻:-;工作寿命:1000hrs@105℃;工作温度:-40℃~+105℃;; Manufacturer: SAMYOUNG(韩国三莹); Symbol: MVK25VC100M6.3*8_6.3TP; Add into BOM: yes; Tolerance: ±20%; Rated Voltage: 25V; φD: 6.3mm; L: 8mm; Name: 100uF; Device: MVK25VC100M6.3*8 6.3TP; LCSC Part Name: 100uF ±20% 25V; Supplier Part: C346943; Manufacturer Part: MVK25VC100M6.3*8 6.3TP; Supplier Footprint: SMD,D6.3xL8mm; JLCPCB Part Class: 扩展库; Datasheet: https://atta.szlcsc.com/upload/public/pdf/source/20181213/C346943_785267DA632FB783FF1D4C47B07D9403.pdf; Supplier: LCSC; Convert to PCB: yes; Ripple Current: -; Equivalent Series Resistance(ESR): -; Lifetime @ Temp: 1000hrs@105℃; Operating Temperature: -40℃~+105℃
footprint CAP-SMD_BD6.3-L6.6-W6.6-FD
3D model CAP-SMD_BD6.3-L6.6-W6.6-FD
pins: 1, 2

## MWSA1206S-5R6MT
designator L?  value 5.6uH  (hidden comment: MWSA1206S-5R6MT)
电感值:5.6uH;精度:±20%;额定电流:13A;直流电阻(DCR):11mΩ;; Manufacturer: Sunlord(顺络); Add into BOM: yes; Tolerance: ±20%; Rated Current: 13A; DC Resistance (DCR): 11mΩ; Name: 5.6uH; Symbol: MWSA1206S-5R6MT; Device: MWSA1206S-5R6MT; LCSC Part Name: 5.6uH ±20% 13A 11mΩ; Supplier Part: C408522; Manufacturer Part: MWSA1206S-5R6MT; Supplier Footprint: SMD; JLCPCB Part Class: 扩展库; Datasheet: https://atta.szlcsc.com/upload/public/pdf/source/20191101/C408522_15C70864860952695D7524E36A63DBCC.pdf; Supplier: LCSC; Convert to PCB: yes
footprint IND-SMD_L13.4-W12.6
3D model IND-SMD_L13.4-W12.6-H6.5
pins: 1, 2

## NS4168
designator *?
footprint eSOP-8
pins: 1 CTRL, 2 LRCLK, 3 BCLK, 4 SDATA, 5 VOUTN, 6 VDD, 7 GND, 8 VOUTP

## NTMFS5C670NLT1G
designator Q?  NUMBER: 1  (hidden comment: NTMFS5C670NLT1G)
类型:N沟道;漏源电压(Vdss):60V;连续漏极电流(Id):71A;功率(Pd):3.6W;导通电阻(RDS(on)@Vgs,Id):6.1mΩ@10V,35A;阈值电压(Vgs(th)@Id):2V@250uA;栅极电荷(Qg@Vgs):-;输入电容(Ciss@Vds):-;反向传输电容(Crss@Vds):-;工作温度:-;; Manufacturer: onsemi(安森美); Add into BOM: yes; Type: N沟道; Drain Source Voltage (Vdss): 60V; Continuous Drain Current (Id): 71A; Power Dissipation (Pd): 3.6W; Name: NTMFS5C670NLT1G; Symbol: NTMFS5C670NLT1G; Device: NTMFS5C670NLT1G; LCSC Part Name: NTMFS5C670NLT1G; Supplier Part: C179626; Manufacturer Part: NTMFS5C670NLT1G; Supplier Footprint: SO-8FL; JLCPCB Part Class: 扩展库; Datasheet: https://atta.szlcsc.com/upload/public/pdf/source/20221020/CBB579D21F9290D8F14D82B122325F26.pdf; Supplier: LCSC; Convert to PCB: yes; Drain Source On Resistance (RDS(on)@Vgs,Id): 6.1mΩ@10V,35A; Gate Threshold Voltage (Vgs(th)@Id): 2V@250uA; Total Gate Charge (Qg@Vgs): -; Input Capacitance (Ciss@Vds): -; Reverse Transfer Capacitance (Crss@Vds): -; Operating Temperature: -
footprint DFN-5_L6.1-W5.1-P1.27-BL
3D model DFN-5_L6.1-W5.1-H1.0-P1.27
pins: 1 S, 2 S, 3 S, 4 G, 5 D

## OLED-12880
designator *
footprint OLED-12880
pins: 1 NC1, 2 VPP, 3 VCCOMH, 4 VDD, 5 IM1, 6 IREF, 7 CS, 8 RES, 9 DC, 10 SCL, 11 SDA, 12 VSS, 13 NC2

## PCB天线
designator *
footprint PCB天线
pins: 1 C, 2 G

## Ra-01SC
designator U?
footprint Ra-01SC
pins: 1 ANT, 2 GND, 3 3.3V, 4 RESET, 5 TXEN, 6 DIO1, 7 DIO2, 8 DIO3, 9 GND, 10 BUSY, 11 RXEN, 12 SCK, 13 MISO, 14 MOSI, 15 NSS, 16 GND

## S8050
designator Q?
footprint SOT22-3
pins: 1 B, 2 E, 3 C

## SMF30A_C364281
designator D?  (value not drawn)
Manufacturer: MDD; Name: SMF30A; Add into BOM: yes; Symbol: SMF30A_C364281; Device: SMF30A_C364281; LCSC Part Name: SMF30A; Supplier Part: C364281; Manufacturer Part: SMF30A; Supplier Footprint: SOD-123FL; JLCPCB Part Class: 扩展库; Datasheet: https://atta.szlcsc.com/upload/public/pdf/source/20190429/C364281_65708255D1B0803FE798984C9C9C627F.pdf; Supplier: LCSC; Convert to PCB: yes
footprint SOD-123FL_L2.6-W1.6-LS3.4-R-FD
3D model SOD-123FL_L2.8-W1.8-H1.1-LS3.6
pins: 1 K, 2 A

## spm1423hm4h-b
designator *?
footprint spm1423hm4h-b
pins: 1 GND, 2 SELECT, 3 GND, 4 CLOCK, 5 DATA, 6 VDD

## STM32F103C8T6
designator U?  (value not drawn)
CPU内核:ARM Cortex-M3;CPU最大主频:72MHz;工作电压范围:2V~3.6V;内部振荡器:有;程序 FLASH容量:64K@x8bit;RAM总容量:20KB;EEPROM/数据 FLASH容量:-;GPIO端口数量:37;ADC(单元数/通道数/位数):1@x10ch/12bit;外设/功能/协议栈:温度传感器；DMA；看门狗；POR；PWM;工作温度范围:-40℃~+85℃;; Manufacturer: ST(意法半导体); Add into BOM: yes; Maximum Frequency: 72MHz; Internal Oscillator: 有; RAM Size: 20KB; GPIO Ports Number: 37; Name: STM32F103C8T6; Symbol: STM32F103C8T6; Device: STM32F103C8T6; LCSC Part Name: ARM Cortex-M3 72MHz 64K@x8bit 20KB MSL=3; Supplier Part: C8734; Manufacturer Part: STM32F103C8T6; Supplier Footprint: LQFP-48_7x7x05P; JLCPCB Part Class: 基础库; Datasheet: https://atta.szlcsc.com/upload/public/pdf/source/20140724/1457707174202.pdf; Supplier: LCSC; Convert to PCB: yes; CPU Core: ARM Cortex-M3; Supply Voltage Range: 2V~3.6V; Program FLASH Size: 64K@x8bit; EEPROM/Data FLASH Size: -; ADC (Units/Channels/bits): 1@x10ch/12bit; Peripherals / Functions / Protocol Stacks: 温度传感器；DMA；看门狗；POR；PWM; Operating Temperature Range: -40℃~+85℃
footprint LQFP-48_L7.0-W7.0-P0.50-LS9.0-BL
3D model LQFP-48_L7.0-W7.0-H1.4-LS9.0-P0.50
pins: 1 VBAT, 2 PC13-TAMPER-RTC, 3 PC14-OSC32_IN, 4 PC15-OSC32_OUT, 5 PD0-OSC_IN, 6 PD1-OSC_OUT, 7 NRST, 8 VSSA, 9 VDDA, 10 PA0-WKUP, 11 PA1, 12 PA2, 13 PA3, 14 PA4, 15 PA5, 16 PA6, 17 PA7, 18 PB0, 19 PB1, 20 PB2, 21 PB10, 22 PB11, 23 VSS_1, 24 VDD_1, 25 PB12, 26 PB13, 27 PB14, 28 PB15, 29 PA8, 30 PA9, 31 PA10, 32 PA11, 33 PA12, 34 PA13, 35 VSS_2, 36 VDD_2, 37 PA14, 38 PA15, 39 PB3, 40 PB4, 41 PB5, 42 PB6, 43 PB7, 44 BOOT0, 45 PB8, 46 PB9, 47 VSS_3, 48 VDD_3

## SWPA3015
designator Q?
footprint SWPA3015
pins: 1, 2

## SWPA3015S1R5NT
designator L?  value 1.5uH  (hidden comment: SWPA3015S1R5NT)
电感值:1.5uH;精度:±30%;额定电流:1.7A;直流电阻(DCR):50mΩ;; Manufacturer: Sunlord(顺络); Add into BOM: yes; Tolerance: ±30%; Rated Current: 1.7A; DC Resistance (DCR): 50mΩ; Name: 1.5uH; Symbol: SWPA3015S1R5NT; Device: SWPA3015S1R5NT; LCSC Part Name: 1.5uH ±30% 1.7A 50mΩ; Supplier Part: C56594; Manufacturer Part: SWPA3015S1R5NT; Supplier Footprint: SMD; JLCPCB Part Class: 扩展库; Datasheet: https://atta.szlcsc.com/upload/public/pdf/source/20210916/AC798BA7E846B7D0B6818F45CD84DB0B.pdf; Supplier: LCSC; Convert to PCB: yes
footprint IND-SMD_L3.0-W3.0
3D model IND-SMD_L3.0-W3.0-H1.5
pins: 1, 2

## SWPA4020S1R5NT
designator L?  value 1.5uH  (hidden comment: SWPA4020S1R5NT)
电感值:1.5uH;精度:±30%;额定电流:1.98A;饱和电流(Isat):4.45A;直流电阻(DCR):35mΩ;; Manufacturer: Sunlord(顺络); Add into BOM: yes; Tolerance: ±30%; Rated Current: 1.98A; Saturation Current (Isat): 4.45A; DC Resistance (DCR): 35mΩ; Name: 1.5uH; Symbol: SWPA4020S1R5NT; Device: SWPA4020S1R5NT; LCSC Part Name: 1.5uH ±30% 1.98A 35mΩ; Supplier Part: C42099; Manufacturer Part: SWPA4020S1R5NT; Supplier Footprint: SMD; JLCPCB Part Class: 扩展库; Datasheet: https://atta.szlcsc.com/upload/public/pdf/source/20210916/AC798BA7E846B7D0B6818F45CD84DB0B.pdf; Supplier: LCSC; Convert to PCB: yes
footprint IND-SMD_L4.0-W4.0
3D model IND-SMD_L4.0-W4.0-H1.9
pins: 1, 2

## SY7088-DGC
designator U?
footprint DFN-8_L3.0-W2.0
pins: 1 LX, 2 LX, 3 EN, 4 SGND, 5 FB, 6 IN, 7 OUT, 8 OUT, 9 PGND

## TEST_PT
designator Q?
footprint 100x50mil焊盘
footprint 1x1mm测试点
footprint 2x3mm焊接
pins: 0

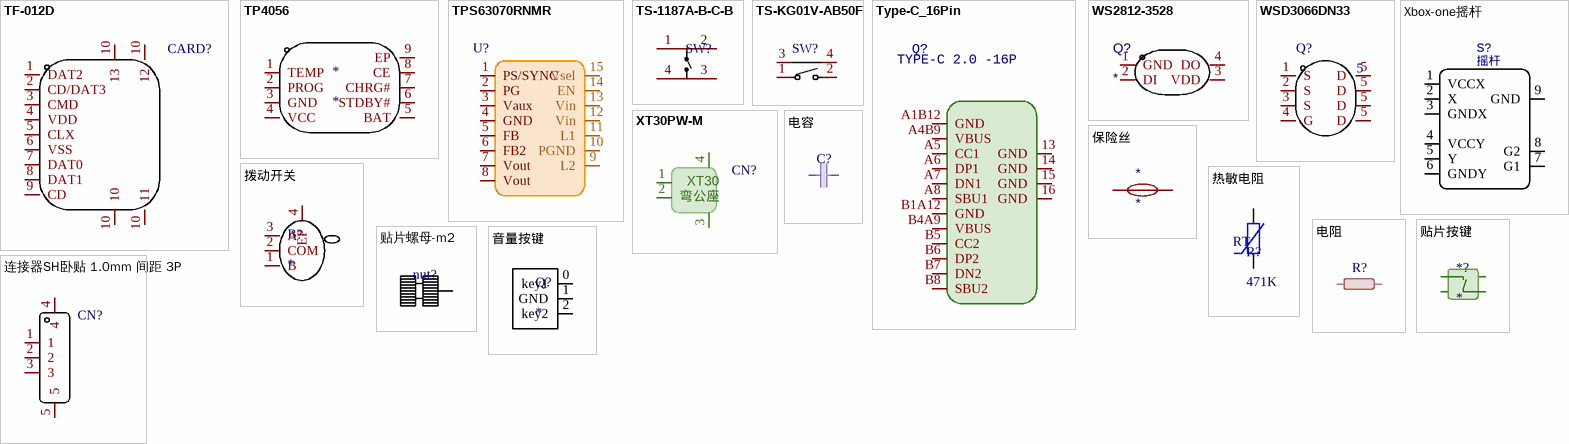
[diagram p3: symbols TF-012D to 音量按键]

## TF-012D
designator CARD?  (value not drawn)
卡连接方式:自弹式;卡类型:MicroSD卡(TF卡);连接器类型:卡座;本体最大高度:2mm;工作温度范围:-;; Manufacturer: 台湾汉博; Add into BOM: yes; Card Connection Mode: 自弹式; Connector Type: 卡座; Maximum Body Height: 2mm; Name: TF-012D; Symbol: TF-012D; Device: TF-012D; LCSC Part Name: 自弹式 MicroSD卡(TF卡) 卡座; Supplier Part: C2874207; Manufacturer Part: TF-012D; Supplier Footprint: SMD; JLCPCB Part Class: 扩展库; Datasheet: https://atta.szlcsc.com/upload/public/pdf/source/20210827/8E061D52B26AE48DF8B2A0F13C99E848.pdf; Supplier: LCSC; Convert to PCB: yes; Card Type: MicroSD卡(TF卡); Operating Temperature Range: -
footprint TF-SOCKET
pins: 1 DAT2, 2 CD/DAT3, 3 CMD, 4 VDD, 5 CLX, 6 VSS, 7 DAT0, 8 DAT1, 9 CD, 10, 10 11, 10 12, 10 13

## TP4056
designator *
footprint eSOP-8
pins: 1 TEMP, 2 PROG, 3 GND, 4 VCC, 5 BAT, 6 STDBY#, 7 CHRG#, 8 CE, 9 EP

## TPS63070RNMR
designator U?  (value not drawn)
功能类型:升降压型;同步整流:是;输出通道数:1;拓扑结构:降压-升压式;输入电压:2V~16V;输出电压:2.5V~9V;输出电流(最大值):2A;开关频率:2.4MHz;; Manufacturer: TI(德州仪器); Add into BOM: yes; Function: 升降压型; Synchronous Rectification: 是; Number of Outputs: 1; Topology: 降压-升压式; Input Voltage: 2V~16V; Output Current (Max): 2A; Switching Frequency: 2.4MHz; Name: TPS63070RNMR; Symbol: TPS63070RNMR; Device: TPS63070RNMR; LCSC Part Name: 升降压型 2V~16V 2A 2.4MHz; Supplier Part: C109322; Manufacturer Part: TPS63070RNMR; Supplier Footprint: VQFN-HR-15; Datasheet: https://atta.szlcsc.com/upload/public/pdf/source/20170810/C109322_1502335154724879675.pdf; Supplier: LCSC; Convert to PCB: yes; Output Voltage: 2.5V~9V
footprint VQFN-HR-15_L3.0-W2.5-P0.50-BL_TPS63070RNMR
3D model VQFN-HR-15_L3.0-W2.5-H0.9-P0.50-BL_TPS63070RNMR
pins: 1 PS/SYNC, 2 PG, 3 Vaux, 4 GND, 5 FB, 6 FB2, 7 Vout, 8 Vout, 9 L2, 10 PGND, 11 L1, 12 Vin, 13 Vin, 14 EN, 15 Vsel

## TS-1187A-B-C-B
designator SW?  (value not drawn)
触点电流:50mA;额定电压(DC):12V;绝缘电阻:100mΩ;电路结构:单刀单掷;安装方式:立贴;按钮形状:圆形按钮;按钮/盖帽颜色:金色;带灯:无;作用力:160gf;机械寿命:100000;工作温度:-30℃~+85℃;开关长度:5.1mm;开关宽度:5.1mm;开关高度:1.7mm;带支架:否;; Manufacturer: XKB Connectivity(中国星坤); Add into BOM: yes; Contact Current: 50mA; Voltage Rating (DC): 12V; Insulation Resistance: 100mΩ; Circuit: 单刀单掷; Actuator Style: 圆形按钮; Actuator/Cap Color: 金色; With Lamp: 无; Operating Force: 160gf; Mechanical Life: 100000; Switch Length: 5.1mm; Switch Height: 1.7mm; Strike Gundam: 否; Name: TS-1187A-B-C-B; Symbol: TS-1187A-B-C-B; Device: TS-1187A-B-C-B; LCSC Part Name: 4x4x1.7 160gf 铜头; Supplier Part: C692460; Manufacturer Part: TS-1187A-B-C-B; Supplier Footprint: SMD; JLCPCB Part Class: 扩展库; Datasheet: https://atta.szlcsc.com/upload/public/pdf/source/20211011/CF465E46D2427DB66E133733EF19F823.pdf; Supplier: LCSC; Convert to PCB: yes; Mounting Style: 立贴; Operating Temperature: -30℃~+85℃; Switch Width: 5.1mm
footprint SW-SMD_4P-L5.1-W5.1-P3.70-LS6.5-TL-2
3D model SW-SMD_4P-L5.2-W5.2-H1.5-LS6.4-P3.70
pins: 1, 2, 3, 4

## TS-KG01V-AB50F
designator SW?  (value not drawn)
触点电流:50mA;额定电压(DC):12V;绝缘电阻:100MΩ;电路结构:单刀单掷;安装方式:卧插;按钮形状:矩形按钮;按钮/盖帽颜色:白色;作用力:250gf@±50gf;引脚样式:PC引脚;开关宽度:3.5mm;开关高度:5mm;带支架:否;; Manufacturer: 汉博(HANBO); Add into BOM: yes; Contact Current: 50mA; Voltage Rating (DC): 12V; Insulation Resistance: 100MΩ; Circuit: 单刀单掷; Actuator Style: 矩形按钮; Actuator/Cap Color: 白色; Pin Style: PC引脚; Switch Width: 3.5mm; Switch Height: 5mm; Strike Gundam: 否; Name: TS-KG01V-AB50F; Symbol: TS-KG01V-AB50F; Device: TS-KG01V-AB50F; LCSC Part Name: 卧式侧按带支架3x6x5.0插脚按键; Supplier Part: C2874265; Manufacturer Part: TS-KG01V-AB50F; Supplier Footprint: 插件; JLCPCB Part Class: 扩展库; Datasheet: https://atta.szlcsc.com/upload/public/pdf/source/20210816/DD0EC5C3C7FECAAEF62A142FD0D2373D.pdf; Supplier: LCSC; Convert to PCB: yes; Mounting Style: 卧插; Operating Force: 250gf@±50gf
footprint 侧贴按键
pins: 1, 2, 3, 4

## Type-C_16Pin
designator Q?, comment TYPE-C 2.0 -16P
USB2.0_Type-C_16Pin母座
footprint USB-C-SMD_16P
pins: 13 GND, 14 GND, 15 GND, 16 GND, A1B12 GND, A4B9 VBUS, A5 CC1, A6 DP1, A7 DN1, A8 SBU1, B1A12 GND, B4A9 VBUS, B5 CC2, B6 DP2, B7 DN2, B8 SBU2

## WS2812-3528
designator Q?
footprint WS2812-3528
pins: 1 GND, 2 DI, 3 VDD, 4 DO

## WSD3066DN33
designator Q?  NUMBER: 5  (hidden comment: WSD3066DN33)
类型:N沟道;漏源电压(Vdss):30V;连续漏极电流(Id):50A;功率(Pd):45W;导通电阻(RDS(on)@Vgs,Id):5.7mΩ@10V,35A;阈值电压(Vgs(th)@Id):2.5V@250A;; Manufacturer: WINSOK微硕; Add into BOM: yes; Type: N沟道; Drain Source Voltage (Vdss): 30V; Continuous Drain Current (Id): 50A; Power Dissipation (Pd): 45W; Name: WSD3066DN33; Symbol: WSD3066DN33; Device: WSD3066DN33; LCSC Part Name: N沟道 30V 50A; Supplier Part: C148386; Manufacturer Part: WSD3066DN33; Supplier Footprint: DFN 3.3x3.3-8; JLCPCB Part Class: 扩展库; Datasheet: https://atta.szlcsc.com/upload/public/pdf/source/20171122/C148386_15113333960571134031.pdf; Supplier: LCSC; Convert to PCB: yes; Drain Source On Resistance (RDS(on)@Vgs,Id): 5.7mΩ@10V,35A; Gate Threshold Voltage (Vgs(th)@Id): 2.5V@250A
footprint DFN-8_L3.3-W3.3-P0.65-BL
3D model DFN-8_L3.0-W3.0-H0.9-P0.65
pins: 1 S, 2 S, 3 S, 4 G, 5 D, 5 D, 5 D, 5 D

## Xbox-one摇杆
designator S?, comment 摇杆
BOM_Manufacturer Part: 摇杆电位器; Contributor: asdasddw; Package Display: No; spicePre: S; spiceSymbolName: 摇杆
footprint Xbox
pins: 1 VCCX, 2 X, 3 GNDX, 4 VCCY, 5 Y, 6 GNDY, 7 G1, 8 G2, 9 GND

## XT30PW-M
designator CN?  (value not drawn)
Socket,DCsupply,XT30,male,PIN:2; Manufacturer: AMASS(艾迈斯); Add into BOM: yes; Name: XT30PW-M; Symbol: XT30PW-M; Device: XT30PW-M; LCSC Part Name: XT30PW-M公头; Supplier Part: C431092; Manufacturer Part: XT30PW-M; Supplier Footprint: -; JLCPCB Part Class: 扩展库; Datasheet: https://atta.szlcsc.com/upload/public/pdf/source/20220222/6A9F22F7850E25B33E1BE430ADF8560B.pdf; Supplier: LCSC; Convert to PCB: yes
footprint CONN-TH_XT30PW-M
3D model CONN-TH_XT30PW-M
pins: 1, 2, 3, 4
text: XT30; 弯公座

## 保险丝
designator *
footprint F0603
pins: 1, 2

## 拨动开关
designator B?
footprint 侧贴拨动开关
pins: 1 B, 2 COM, 3 A, 4 EP

## 热敏电阻
designator R?, comment 471K
热敏电阻; BOM名称: 压敏电阻
footprint R0805-HP_L (1/8W高精度贴片电阻)
pins: 1, 2

## 电容
designator C?
贴片电容/MLCC电容; BOM名称: 无极性贴片电容
footprint C0402_L (贴片MLCC电容)
footprint C0603_L (贴片MLCC电容)
footprint C0402_NS (贴片MLCC电容-无丝印)
footprint C0603_NS (贴片MLCC电容-无丝印)
footprint 电容-0402
footprint C1206 (贴片MLCC电容-无丝印)
pins: 1, 2

## 电阻
designator R?
贴片电阻; BOM名称: 贴片电阻
footprint R0402_L (1/16W贴片电阻)
footprint R0603_L (1/10W贴片电阻)
footprint R0402_NS (1/16W贴片电阻-无丝印)
footprint R0603_NS (1/10W贴片电阻-无丝印)
footprint 电阻-0402
footprint R1206
pins: 1, 2

## 贴片按键
designator *?
footprint 侧贴按键YD-3414 中龟
footprint SW-SMD_4P-L4.2-W3.3-P2.15-LS5.1
pins: 1, 2, 3, 4

## 贴片螺母-m2
designator nut?  (value not drawn)
footprint m2滚花螺母
footprint 贴片螺母-m2
pins: 0

## 连接器SH卧贴 1.0mm 间距 3P
designator CN?  (value not drawn)
Add into BOM: yes; Name: 连接器SH卧贴 1.0mm 间距 3P; Symbol: 连接器SH卧贴 1.0MM 间距 3P; Device: 连接器SH卧贴 1.0mm 间距 3P; LCSC Part Name: 连接器SH卧贴 1.0mm 间距 3P; Supplier Part: C9900022975; Manufacturer Part: 连接器SH卧贴 1.0mm 间距 3P; Supplier Footprint: SH1.0mm x3卧贴; JLCPCB Part Class: 扩展库; Datasheet: https://atta.szlcsc.comnull; Supplier: LCSC; Convert to PCB: yes
footprint 连接器SH卧贴 1.0mm 间距 3P
pins: 1, 2, 3, 4, 5

## 音量按键
designator Q?
footprint Phone-key
pins: 0 key1, 1 GND, 2 key2